# Altium schematic symbol library AC Power Holes.Schlib: 1 symbol
Pins are listed as number, name and electrical type; pins without a type are passive.

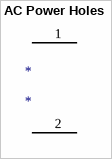
[diagram p0: symbol AC Power Holes]

## AC Power Holes
designator *
pins: 1, 2